# Altium schematic symbol library ebf_mp157 s1 dev board_20210223_原理图封装_AD格式.SCHLIB: 154 symbols (part 2 of 2)
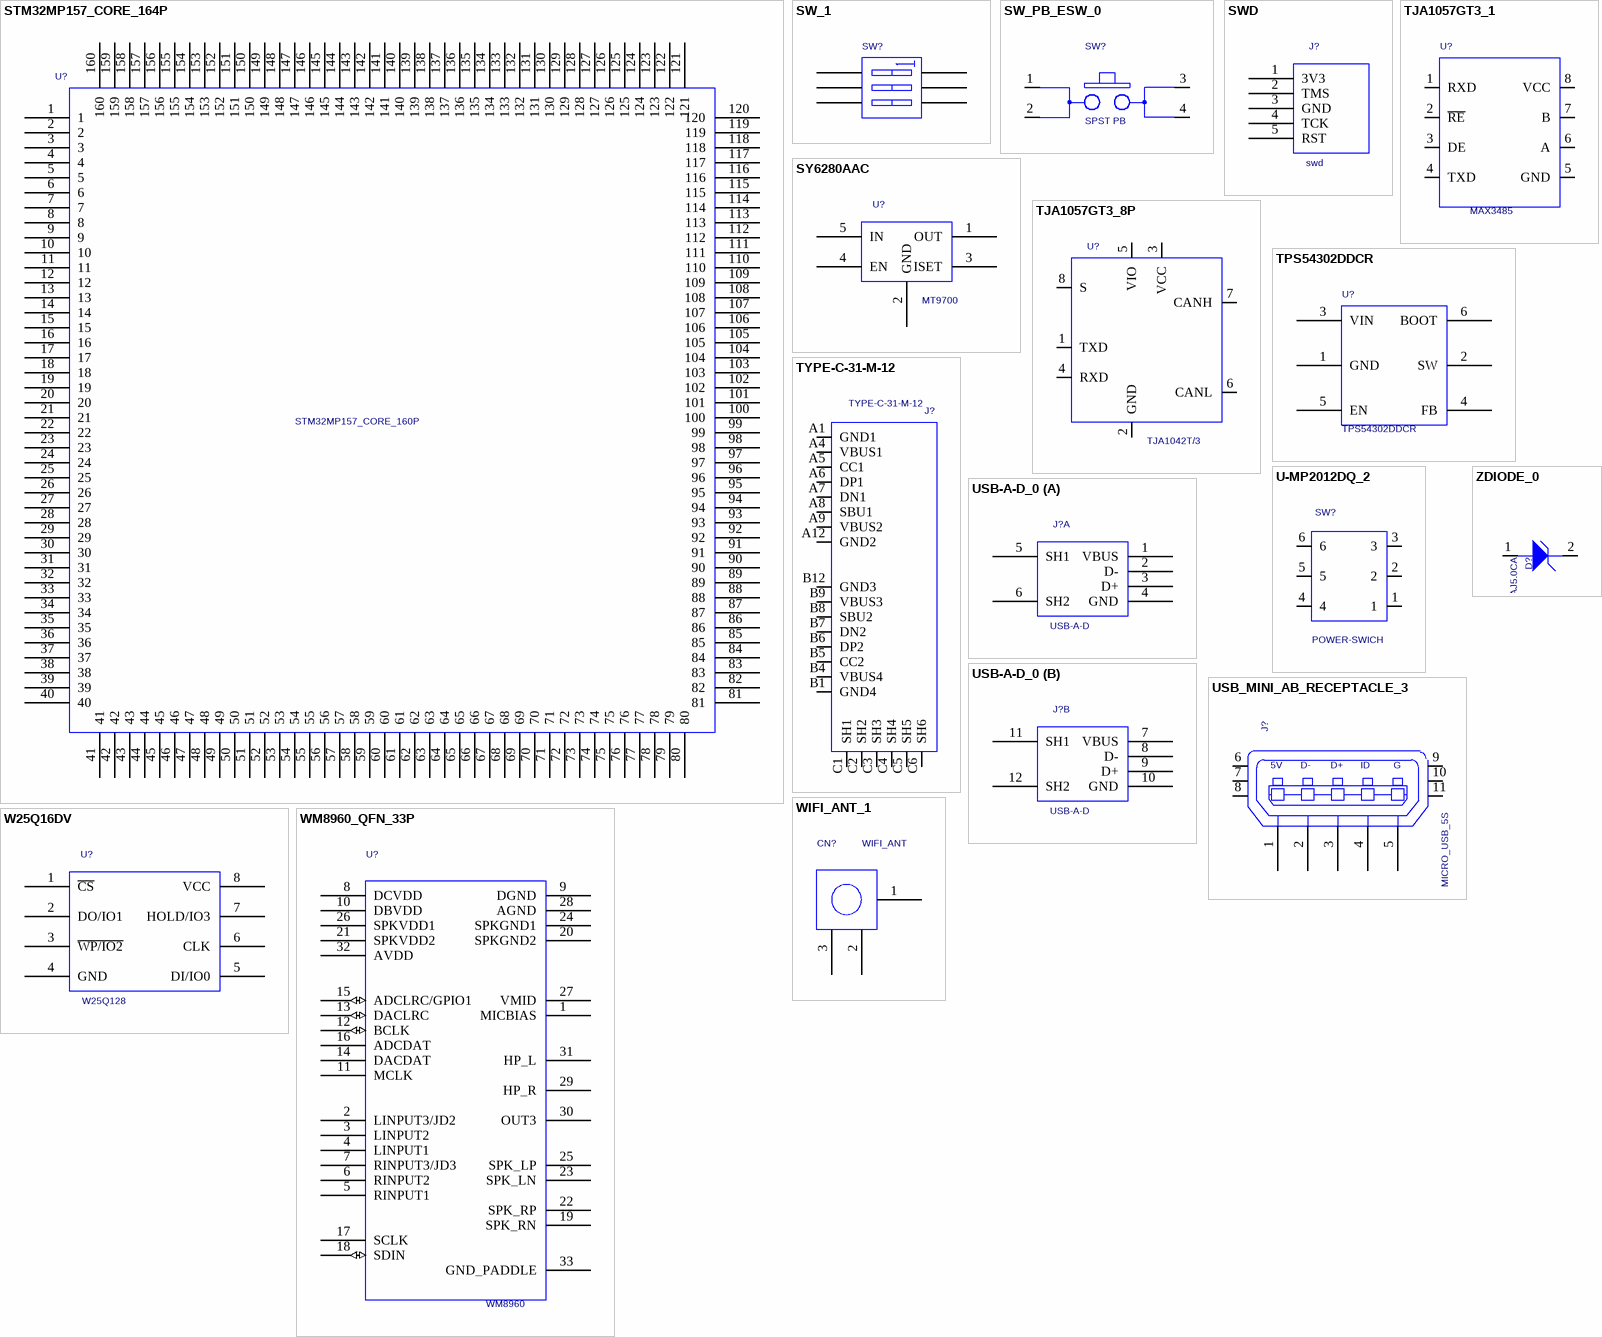
[diagram p5: symbols STM32MP157_CORE_164P to ZDIODE_0]

## STM32MP157_CORE_164P
designator U?  value STM32MP157_CORE_160P  (hidden comment: STM32MP157_CORE_164P)
PCB DECAL: 157_DEV_160P_45X45; Source_Path: E:\20200723_MP157_S\CORE\LIBRARY1.OLB
footprint 157_DEV_160P_45X45
pins: 1, 2, 3, 4, 5, 6, 7, 8, 9, 10, 11, 12, 13, 14, 15, 16, 17, 18, 19, 20, 21, 22, 23, 24, 25, 26, 27, 28, 29, 30, 31, 32, 33, 34, 35, 36, 37, 38, 39, 40, 41, 42, 43, 44, 45, 46, 47, 48, 49, 50, 51, 52, 53, 54, 55, 56, 57, 58, 59, 60, 61, 62, 63, 64, 65, 66, 67, 68, 69, 70, 71, 72, 73, 74, 75, 76, 77, 78, 79, 80, 81, 82, 83, 84, 85, 86, 87, 88, 89, 90, 91, 92, 93, 94, 95, 96, 97, 98, 99, 100, 101, 102, 103, 104, 105, 106, 107, 108, 109, 110, 111, 112, 113, 114, 115, 116, 117, 118, 119, 120, 121, 122, 123, 124, 125, 126, 127, 128, 129, 130, 131, 132, 133, 134, 135, 136, 137, 138, 139, 140, 141, 142, 143, 144, 145, 146, 147, 148, 149, 150, 151, 152, 153, 154, 155, 156, 157, 158, 159, 160

## SW_1
designator SW?  (value not drawn)
PCB DECAL: DIP_6P; Source_Path: E:\Z\野火_MP157_核心板_底板_硬件资料\EBF157_B1_PRO_002\EBF157_B1_PRO_001.DSN; Value: SW
footprint DIP_6P
pins: 1 A1, 2 A2, 3 A3, 4 B3, 5 B2, 6 B1

## SW_PB_ESW_0
designator SW?  value SPST PB  (hidden comment: SW_PB_ESW_0)
SW SPST MOM NO PB TACT 50mA 50V SMT; CAD_APPROVED: Yes; MFG_PN01: TL3301AF260QG/TR; MFG_NAME01: E SWITCH; AGILE_PN: 510-77562; PCB DECAL: SW4_PB_ESW_SM_P177; Source_Path: H:\NXP_RT1050\SCH\IMXRT1052_MB.DSN; CLASS: IC; HEIGHT: 5MM; ROHS: Yes
footprint SW4_PB_ESW_SM_P177
pins: 1 A1, 2 A2, 3 B1, 4 B2

## SWD
designator J?
PCB DECAL: XH2P54-5P_1; Source_Path: E:\Z\野火_MP157_核心板_底板_硬件资料\EBF157_B1_002\MYLIB\MYLIBRARY.OLB; Value: swd
footprint XH2P54-5P_1
pins: 1 3V3, 2 TMS, 3 GND, 4 TCK, 5 RST

## SY6280AAC
designator U?  value MT9700  (hidden comment: SY6280AAC)
PCB DECAL: SOT23-5; Source_Path: G:\开发板代码\郭老师资料\IMX6资料\原理图\SABRESDB_DESIGNFILES\DEVELOP\LIBRARY1.OLB
footprint SOT23-5
pins: 1 OUT, 2 GND, 3 ISET, 4 EN, 5 IN

## TJA1057GT3_1
designator U?  value MAX3485  (hidden comment: TJA1057GT3_1)
IC XCVR CAN 4.75-5.25V/2.95-5.25V AEC-Q100 SO8; CAD_APPROVED: Yes; MFG_PN01: TJA1057GT/3; MFG_NAME01: NXP SEMICONDUCTORS; AGILE_PN: 312-81479; PCB DECAL: SOP8; Source_Path: H:\NXP_RT1050\SCH\IMXRT1052_MB.DSN; HEIGHT: 1.75MM; ROHS: Yes; CLASS: IC
footprint SOP8
pins: 1 RXD, 2 ~{RE}, 3 DE, 4 TXD, 5 GND, 6 A, 7 B, 8 VCC

## TJA1057GT3_8P
designator U?  value TJA1042T/3  (hidden comment: TJA1057GT3_8P)
IC XCVR CAN 4.75-5.25V/2.95-5.25V AEC-Q100 SO8; PCB DECAL: SOP8; CAD_APPROVED: Yes; MFG_PN01: TJA1057GT/3; MFG_NAME01: NXP SEMICONDUCTORS; AGILE_PN: 312-81479; Source_Path: Q:\ORCADCIS\SYMBOLS\FCL_IC5.OLB; HEIGHT: 1.75MM; ROHS: Yes; CLASS: IC
footprint SOP8
pins: 1 TXD, 2 GND (power), 3 VCC (power), 4 RXD, 5 VIO (power), 6 CANL (io), 7 CANH (io), 8 S

## TPS54302DDCR
designator U?
PCB DECAL: SOT23_S6; Source_Path: E:\20200512_SH_HONGDING_CUSTOMIZED\SCH\LIBRARY1.OLB; Value: TPS54302DDCR
footprint SOT23_S6
pins: 1 GND, 2 SW, 3 VIN, 4 FB, 5 EN, 6 BOOT

## TYPE-C-31-M-12
designator J?
Source_Path: C:\MYPROGRAM\CADENCE\SPB_16.6\TOOLS\CAPTURE\LIBRARY\SCH.OLB; PCB DECAL: TYPE-C-31-M-12; Value: TYPE-C-31-M-12
footprint TYPE-C-31-M-12
pins: A1 GND1, A4 VBUS1, A5 CC1, A6 DP1, A7 DN1, A8 SBU1, A9 VBUS2, A12 GND2, B1 GND4, B4 VBUS4, B5 CC2, B6 DP2, B7 DN2, B8 SBU2, B9 VBUS3, B12 GND3, C1 SH1, C2 SH2, C3 SH3, C4 SH4, C5 SH5, C6 SH6

## U-MP2012DQ_2
designator SW?  value POWER-SWICH  (hidden comment: U-MP2012DQ_2)
PCB DECAL: SWITCH_DDSZ; Source_Path: H:\NXP_RT1050\SCH\IMXRT1052_MB.DSN
footprint SWITCH_DDSZ
pins: 1, 2, 3, 4, 5, 6

## USB-A-D_0
designator J?  value USB-A-D  (hidden comment: USB-A-D_0)
Source_Path: D:\NXP_RT1050\RT1050_MB_PRO\SCH\IMXRT1052_MB_PRO_0313.DSN; PCB DECAL: USB-A-D
footprint USB-A-D
part A pins: 1 VBUS, 2 D-, 3 D+, 4 GND, 5 SH1, 6 SH2
part B pins: 7 VBUS, 8 D-, 9 D+, 10 GND, 11 SH1, 12 SH2

## USB_MINI_AB_RECEPTACLE_3
designator J?  value MICRO_USB_5S  (hidden comment: USB_MINI_AB_RECEPTACLE_3)
CON 5 USB MICRO_AB RA SKT SMT 0.65MM SP 110H AU; CAD_APPROVED: Yes; Temp_Range: -55&#8451; to 105&#8451;; MFG_PN01: 23970101#LCP-58LF; MFG_NAME01: ANYTRONIC CORPORATION LIMITED; AGILE_PN: 211-80104; Source_Path: D:\NXP_RT1050\RT1050_MB_PRO\SCH\IMXRT1052_MB_PRO_0418.DSN; CLASS: IO; HEIGHT: 2.8MM; ROHS: Yes; PCB DECAL: MICRO_USB_5S
footprint MICRO_USB_5S
pins: 1 P1, 2 P2, 3 P3, 4 P4, 5 P5, 6 SHLD1, 7 SHLD2, 8 SHLD3, 9 SHLD4, 10 SHLD5, 11 SHLD6
text: 5V; D-; D+; ID; G

## W25Q16DV
designator U?  value W25Q128  (hidden comment: W25Q16DV)
PCB DECAL: SOIC8-208; Source_Path: E:\Z\野火_MP157_核心板_底板_硬件资料\EBF157_B1_002\MYLIB\MYLIBRARY.OLB
footprint SOIC8-208
pins: 1 ~{CS}, 2 DO/IO1, 3 ~{WP/IO2}, 4 GND, 5 DI/IO0, 6 CLK, 7 HOLD/IO3, 8 VCC

## WIFI_ANT_1
designator CN?  value WIFI_ANT  (hidden comment: WIFI_ANT_1)
PCB DECAL: UFL-3; Source_Path: H:\NXP_RT1050\SCH\IMXRT1052_MB.DSN
footprint UFL-3
pins: 1, 2, 3

## WM8960_QFN_33P
designator U?  value WM8960  (hidden comment: WM8960_QFN_33P)
IC CODEC STEREO WITH CLASS D SPEAKER DRIVER 1.71-3.6V QFN32; CAD_APPROVED: Yes; MFG_PN01: WM8960CGEFL/RV; MFG_NAME01: WOLFSON MICROELECTRONICS; AGILE_PN: 315-79450; Source_Path: Q:\ORCADCIS\SYMBOLS\FCL_IC2.OLB; HEIGHT: 1MM; ROHS: Yes; PCB DECAL: QFN32; CLASS: IC
footprint QFN32
pins: 1 MICBIAS, 2 LINPUT3/JD2, 3 LINPUT2, 4 LINPUT1, 5 RINPUT1, 6 RINPUT2, 7 RINPUT3/JD3, 8 DCVDD (power), 9 DGND (power), 10 DBVDD (power), 11 MCLK, 12 BCLK (io), 13 DACLRC (io), 14 DACDAT, 15 ADCLRC/GPIO1 (io), 16 ADCDAT, 17 SCLK, 18 SDIN (io), 19 SPK_RN, 20 SPKGND2 (power), 21 SPKVDD2 (power), 22 SPK_RP, 23 SPK_LN, 24 SPKGND1 (power), 25 SPK_LP, 26 SPKVDD1 (power), 27 VMID, 28 AGND (power), 29 HP_R, 30 OUT3, 31 HP_L, 32 AVDD (power), 33 GND_PADDLE (power)

## ZDIODE_0
designator D?  value SMAJ5.0CA  (hidden comment: ZDIODE_0)
DIODE ZNR -- 0.2W 5.1V AEC-Q101 SOD523; AGILE_PN: 480-77217; MFG_NAME01: ON SEMICONDUCTOR; MFG_PN01: MM5Z5V1ST1G; CAD_APPROVED: Yes; PCB DECAL: SMA; Source_Path: H:\NXP_RT1050\SCH\IMXRT1052_MB.DSN; CLASS: IC; ROHS: Yes; HEIGHT: 0.7MM
footprint SMA
pins: 1 ANODE, 2 CATHODE